# Altium footprint library Xds100v2Emu.PcbLib: 15 footprints
Each footprint in its own frame and in the unit in brackets; x right, y up, seen from the top. Pads: shape width x height; smd on the part's side, far side on the other; paste and mask are expansions set on the pad; w line width, h text height; cw(c..) or ccw(c..) is an arc to the next point about the centre after c.
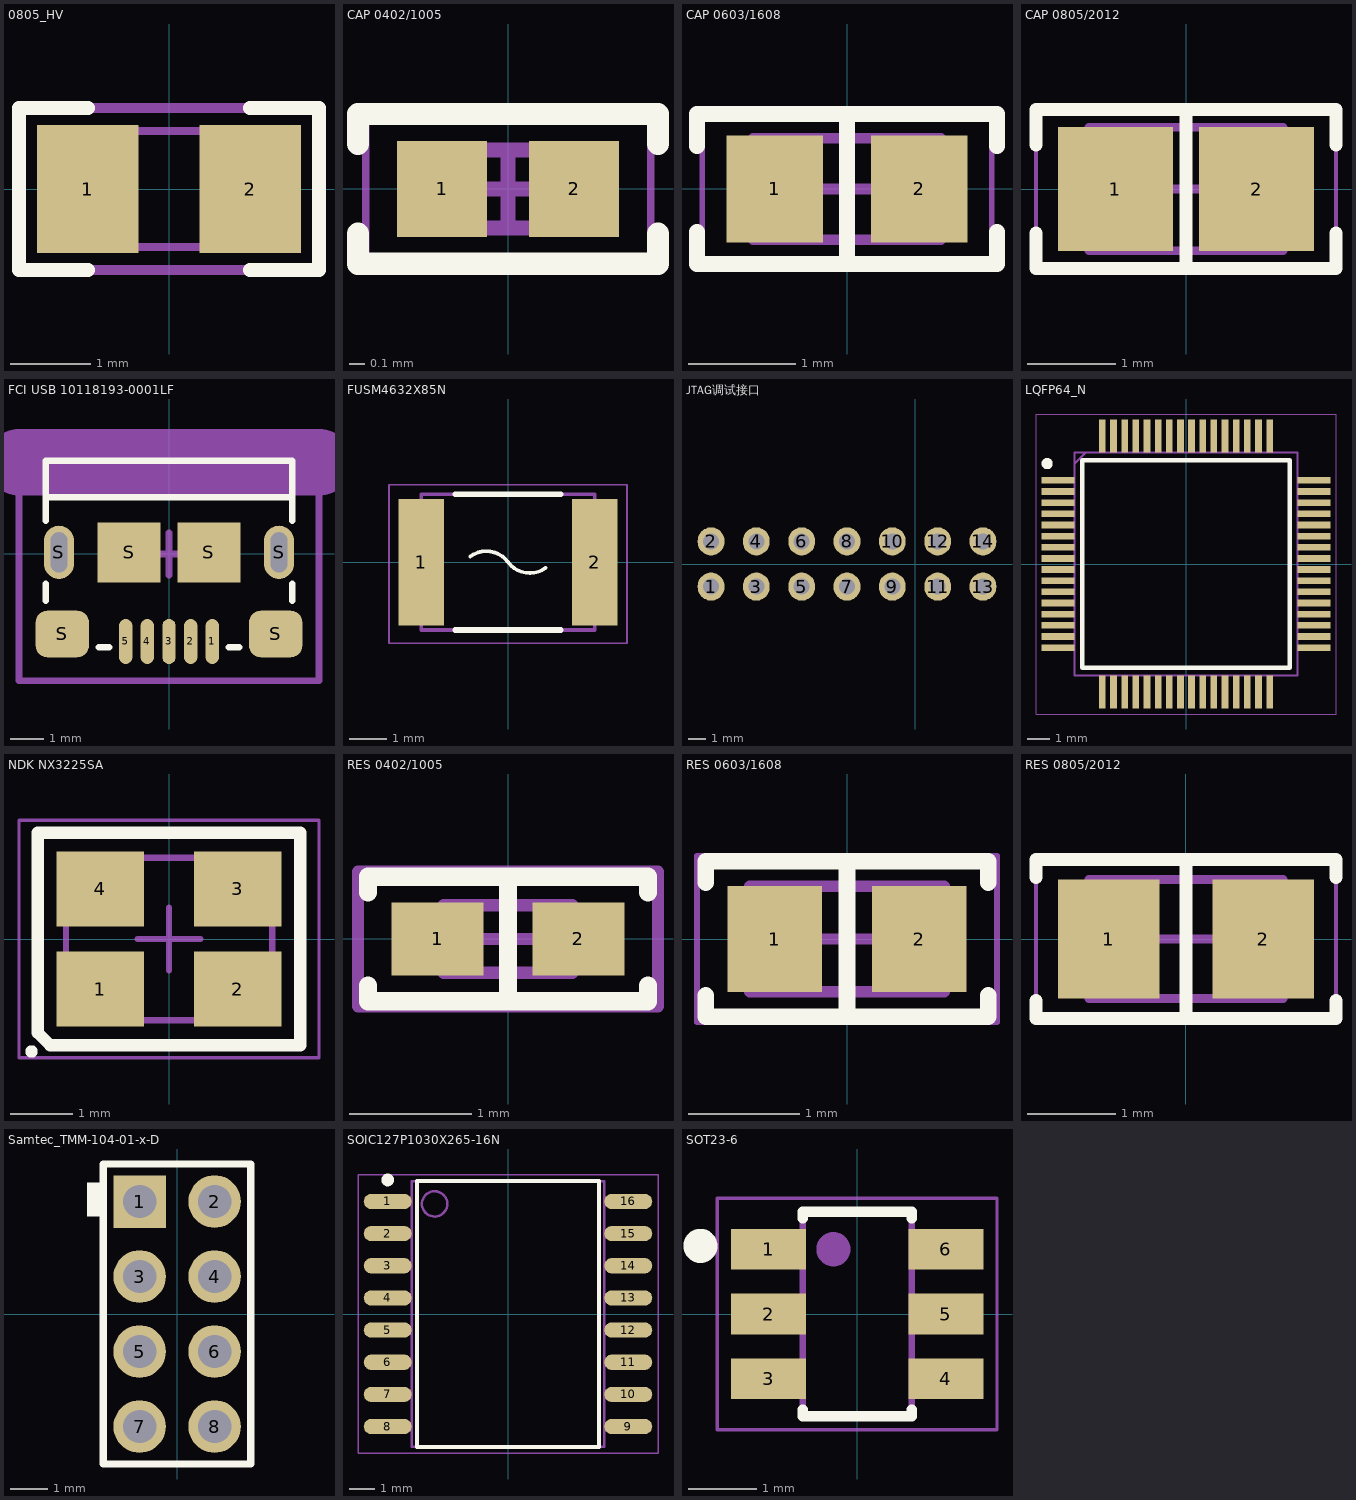
[diagram p0: the footprints below, top view; thin cyan lines are the x and y axes]

## 0805_HV [mil]
height 17.72
pads (2):
  rect 50x63 smd: 1(-40,0) 2(40,0)
Top Overlay:
  lines w7: -40,-40 -74,-40 -74,0 -74,40 -40,40 ; 40,-40 74,-40 74,0 74,40 40,40
Mechanical 5:
  lines w5: -74,-40 74,-40 74,40 -74,40 -74,-40
  text ".Designator" at -64,-17 h35
Mechanical 13:
  lines w3.94: -25.59,-28.54 -25.59,28.54 ; 25.59,-28.54 25.59,28.54 ; -43.31,-28.54 43.31,-28.54 43.31,28.54 -43.31,28.54 -43.31,-28.54
3D body: height 57.09, standoff 0, extent -43.29,-28.52 -25.61,28.52
3D body: height 57.09, standoff 0, extent -25.57,-28.52 25.57,28.52
3D body: height 57.09, standoff 0, extent 25.61,-28.52 43.29,28.52

## CAP 0402/1005 [mm] "Chip Capacitor, 2-Leads, Body 1.02x0.51mm, IPC Medium Density"
height 0.52
pads (2):
  rect 0.6x0.64 smd: 1(-0.44,0) 2(0.44,0)
Top Overlay:
  lines w0.15: -1,-0.3 -1,-0.5 1,-0.5 1,-0.3 ; -1,0.3 -1,0.5 1,0.5 1,0.3
Mechanical 13:
  lines w0.1: -0.515,-0.26 -0.515,0.26 0.515,0.26 0.515,-0.26 -0.515,-0.26
Mechanical 15:
  lines w0.05: -0.95,-0.5 -0.95,0.5 0.95,0.5 0.95,-0.5 -0.95,-0.5
  lines w0.1: -0.26,0 0.26,0 ; 0,-0.26 0,0.26
3D body "0402 cap.STEP": height 0.52, standoff 0, extent -0.5,-0.262 0.5,0.262

## CAP 0603/1608 [mm] "Chip Capacitor, 2-Leads, Body 1.60x0.80mm, IPC Medium Density"
height 0.89
pads (2):
  rect 0.9x1 smd: 1(-0.675,0) 2(0.675,0)
Top Overlay:
  lines w0.15: -1.4,-0.4 -1.4,-0.7 1.4,-0.7 1.4,-0.4 ; -1.4,0.4 -1.4,0.7 1.4,0.7 1.4,0.4 ; 0,-0.7 0,0.7
Mechanical 13:
  lines w0.1: -0.875,-0.475 -0.875,0.475 0.875,0.475 0.875,-0.475 -0.875,-0.475
Mechanical 15:
  lines w0.05: -1.35,-0.75 -1.35,0.75 1.35,0.75 1.35,-0.75 -1.35,-0.75
  lines w0.1: -0.475,0 0.475,0 ; 0,-0.475 0,0.475
3D body "0603 cap.STEP": height 0.82, standoff 0, extent -0.8,-0.412 0.8,0.412

## CAP 0805/2012 [mm] "Chip Capacitor, 2-Leads, Body 2.00x1.20mm, IPC Medium Density"
height 1.15
pads (2):
  rect 1.3x1.4 smd: 1(-0.8,0) 2(0.8,0)
Top Overlay:
  lines w0.15: -1.7,-0.5 -1.7,-0.9 1.7,-0.9 1.7,-0.5 ; -1.7,0.5 -1.7,0.9 1.7,0.9 1.7,0.5 ; 0,-0.9 0,0.9
Mechanical 13:
  lines w0.1: -1.1,-0.7 -1.1,0.7 1.1,0.7 1.1,-0.7 -1.1,-0.7
Mechanical 15:
  lines w0.05: -1.7,-0.95 -1.7,0.95 1.7,0.95 1.7,-0.95 -1.7,-0.95
  lines w0.1: -0.5,0 0.5,0 ; 0,-0.5 0,0.5
3D body "0805 cap.STEP": height 1.26, standoff -0.02, extent -1,-0.637 1,0.637

## FCI USB 10118193-0001LF [mm] "USB 2.0 Type B Micro"
height 3.1
pads (11):
  oval 0.4x1.35 smd: 1(1.3,-2.625) 2(0.65,-2.625) 3(0,-2.625) 4(-0.65,-2.625) 5(-1.3,-2.625)
  oval 0.9x1.6 hole 0.5 slot 1.2 at 90 deg: S(-3.3,0.05) S(3.3,0.05)
  rrect50% 1.6x1.4 smd: S(-3.2,-2.4) S(3.2,-2.4)
  rect 1.9x1.8 smd: S(-1.2,0.05) S(1.2,0.05)
Top Overlay:
  lines w0.2: -3.7,-1.4 -3.7,-0.9 ; -3.7,1 -3.7,1.7 ; -2.1,-2.8 -1.8,-2.8 ; 1.8,-2.8 2.1,-2.8 ; 3.7,-1.4 3.7,-0.9 ; 3.7,1 3.7,1.7 ; -3.7,1.7 -3.7,2.8 3.7,2.8 3.7,1.7 ; -3.7,1.7 3.7,1.7
Mechanical 15:
  lines w0.2: -0.635,0 0.635,0 ; 0,-0.635 0,0.635 ; -4.5,-3.8 4.5,-3.8 4.5,3.2 -4.5,3.2 -4.5,-3.8
Mechanical 31:
  lines w2: -4.5,2.754 0,2.754 4.5,2.754
3D body "FCI USB 10118193-0001lfc.STEP": height 2.78, standoff -0.82, extent -3.929,-2.9 3.928,2.76

## FUSM4632X85N [mm]
pads (2):
  rect 1.2x3.35 smd paste+0 mask+0.1: 1(-2.3,0) 2(2.3,0)
Top Overlay:
  lines w0.1: -1,0.15 cw(c-0.575,-0.425) 0,0 ccw(c0.575,0.425) 1,-0.15
  lines w0.15: -1.4,-1.8 1.4,-1.8 ; -1.4,1.8 1.4,1.8
Mechanical 14:
  lines w0.1: -2.3,-1.8 -2.3,1.8 2.3,1.8 2.3,-1.8 -2.3,-1.8
Mechanical 16:
  lines w0.05: -3.15,-2.15 -3.15,2.05 3.15,2.05 3.15,-2.15 -3.15,-2.15

## JTAG调试接口 [mm]
pads (14):
  oval 1.5x1.575 hole 0.9: 1(-11.455,-1.27) 2(-11.455,1.27) 3(-8.915,-1.27) 4(-8.915,1.27) 5(-6.375,-1.27) 6(-6.375,1.27) 7(-3.835,-1.27) 8(-3.835,1.27) 9(-1.295,-1.27) 10(-1.295,1.27) 11(1.245,-1.27) 12(1.245,1.27) 13(3.785,-1.27) 14(3.785,1.27)

## LQFP64_N [mm]
pads (64):
  rect 1.475x0.3 smd: 1(-5.738,3.75) 2(-5.738,3.25) 3(-5.738,2.75) 4(-5.738,2.25) 5(-5.738,1.75) 6(-5.738,1.25) 7(-5.738,0.75) 8(-5.738,0.25) 9(-5.738,-0.25) 10(-5.738,-0.75) 11(-5.738,-1.25) 12(-5.738,-1.75) 13(-5.738,-2.25) 14(-5.738,-2.75) 15(-5.738,-3.25) 16(-5.738,-3.75) 33(5.738,-3.75) 34(5.738,-3.25) 35(5.738,-2.75) 36(5.738,-2.25) 37(5.738,-1.75) 38(5.738,-1.25) 39(5.738,-0.75) 40(5.738,-0.25) 41(5.738,0.25) 42(5.738,0.75) 43(5.738,1.25) 44(5.738,1.75) 45(5.738,2.25) 46(5.738,2.75) 47(5.738,3.25) 48(5.738,3.75)
  rect 0.3x1.475 smd: 17(-3.75,-5.738) 18(-3.25,-5.738) 19(-2.75,-5.738) 20(-2.25,-5.738) 21(-1.75,-5.738) 22(-1.25,-5.738) 23(-0.75,-5.738) 24(-0.25,-5.738) 25(0.25,-5.738) 26(0.75,-5.738) 27(1.25,-5.738) 28(1.75,-5.738) 29(2.25,-5.738) 30(2.75,-5.738) 31(3.25,-5.738) 32(3.75,-5.738) 49(3.75,5.738) 50(3.25,5.738) 51(2.75,5.738) 52(2.25,5.738) 53(1.75,5.738) 54(1.25,5.738) 55(0.75,5.738) 56(0.25,5.738) 57(-0.25,5.738) 58(-0.75,5.738) 59(-1.25,5.738) 60(-1.75,5.738) 61(-2.25,5.738) 62(-2.75,5.738) 63(-3.25,5.738) 64(-3.75,5.738)
Top Overlay:
  circle w0.25: c-6.225,4.5 r0.125
  lines w0.2: -4.65,-4.65 -4.65,4.65 4.65,4.65 4.65,-4.65 -4.65,-4.65
Mechanical 13:
  lines w0.1: -5,4.5 -4.5,5 ; -5,-5 -5,5 5,5 5,-5 -5,-5
Mechanical 15:
  lines w0.05: -6.725,-6.725 -6.725,6.725 6.725,6.725 6.725,-6.725 -6.725,-6.725
3D body "FT2232HL-REEL.stp": height 1.6, standoff 0, extent -6,-6 6,6

## NDK NX3225SA [mm] "Crystal, 4-Leads, Body 2.50x3.20mm, Pitch 2.20mm, IPC Medium Density"
height 0.6
pads (4):
  rect 1.4x1.2 smd: 1(-1.1,-0.8) 2(1.1,-0.8) 3(1.1,0.8) 4(-1.1,0.8)
Top Overlay:
  circle w0.1: c-2.2,-1.8 r0.05
  lines w0.2: -2.1,-1.5 -1.9,-1.7 -1.1,-1.7 2.1,-1.7 2.1,1.7 -2.1,1.7 -2.1,-1.5
Mechanical 13:
  lines w0.1: -1.65,-1.3 1.65,-1.3 1.65,1.3 -1.65,1.3 -1.65,-1.3
Mechanical 15:
  lines w0.05: -2.4,-1.9 2.4,-1.9 2.4,1.9 -2.4,1.9 -2.4,-1.9
  lines w0.1: -0.5,0 0.5,0 ; 0,-0.5 0,0.5
3D body "NDK NX3225SA.STEP": height 0.6, standoff 0, extent -1.61,-1.26 1.61,1.26

## RES 0402/1005 [mm] "Chip Resistor, 2-Leads, Body 1.0x0.5mm, IPC Medium Density"
height 0.4
pads (2):
  rect 0.75x0.6 smd: 1(-0.575,0) 2(0.575,0)
Top Overlay:
  lines w0.15: -1.143,-0.381 -1.143,-0.508 1.143,-0.508 1.143,-0.381 ; -1.143,0.381 -1.143,0.508 1.143,0.508 1.143,0.381 ; 0,-0.508 0,0.508
Mechanical 13:
  lines w0.1: -0.525,-0.275 0.525,-0.275 0.525,0.275 -0.525,0.275 -0.525,-0.275
Mechanical 15:
  lines w0.1: -0.275,0 0.275,0 ; 0,-0.275 0,0.275 ; -1.225,-0.55 1.225,-0.55 1.225,0.55 -1.225,0.55 -1.225,-0.55
3D body "0402 resistor.STEP": height 0.35, standoff 0, extent -0.5,-0.25 0.5,0.25

## RES 0603/1608 [mm] "Chip Resistor, 2-Leads, Body 1.60x0.80mm, IPC Medium Density"
height 0.45
pads (2):
  rect 0.85x0.95 smd: 1(-0.65,0) 2(0.65,0)
Top Overlay:
  lines w0.15: -1.27,-0.508 -1.27,-0.7 1.27,-0.7 1.27,-0.508 ; -1.27,0.508 -1.27,0.7 1.27,0.7 1.27,0.508 ; 0,-0.7 0,0.7
Mechanical 13:
  lines w0.1: -0.875,-0.475 0.875,-0.475 0.875,0.475 -0.875,0.475 -0.875,-0.475
Mechanical 15:
  lines w0.05: -1.35,-0.75 1.35,-0.75 1.35,0.75 -1.35,0.75 -1.35,-0.75
  lines w0.1: -0.475,0 0.475,0 ; 0,-0.475 0,0.475
3D body "0603 resistor.STEP": height 0.45, standoff 0, extent -0.8,-0.4 0.8,0.4

## RES 0805/2012 [mm] "Chip Resistor, 2-Leads, Body 2.00x1.25mm, IPC Medium Density"
height 0.7
pads (2):
  rect 1.15x1.35 smd: 1(-0.875,0) 2(0.875,0)
Top Overlay:
  lines w0.15: -1.7,-0.7 -1.7,-0.9 1.7,-0.9 1.7,-0.7 ; -1.7,0.7 -1.7,0.9 1.7,0.9 1.7,0.7 ; 0,-0.9 0,0.9
Mechanical 13:
  lines w0.1: -1.1,-0.675 1.1,-0.675 1.1,0.675 -1.1,0.675 -1.1,-0.675
Mechanical 15:
  lines w0.05: -1.7,-0.95 1.7,-0.95 1.7,0.95 -1.7,0.95 -1.7,-0.95
  lines w0.1: -0.5,0 0.5,0 ; 0,-0.5 0,0.5
3D body "0805 resistor.STEP": height 0.6, standoff 0, extent -0.95,-0.625 1.05,0.625

## Samtec_TMM-104-01-x-D [mm]
height 0.45
pads (8):
  rect 1.4x1.4 hole 0.89: 1(-1,3)
  round 1.4 hole 0.89: 2(1,3) 3(-1,1) 4(1,1) 5(-1,-1) 6(1,-1) 7(-1,-3) 8(1,-3)
Top Overlay:
  rectangle: -2.4,2.6 -2,3.5
  lines w0.2: -1.968,-4 1.968,-4 1.969,4 -1.968,4 -1.968,-4
Mechanical 5:
  lines w0.1: -1.254,-3.254 -0.746,-3.254 ; -1.254,-3.254 -1.127,-3.127 ; -1.254,-3.254 -1.254,-2.746 ; -1.254,-2.746 -0.746,-2.746 ; -1.254,-2.746 -1.127,-2.873 ; -1.254,-1.254 -1.127,-1.127 ; -1.254,-1.254 -0.746,-1.254 ; -1.254,-1.254 -1.254,-0.746 ; -1.254,-0.746 -0.746,-0.746 ; -1.254,-0.746 -1.127,-0.873 ; -1.254,0.746 -1.254,1.254 ; -1.254,0.746 -1.127,0.873 ; -1.254,0.746 -0.746,0.746 ; -1.254,1.254 -0.746,1.254 ; -1.254,1.254 -1.127,1.127 ; -1.254,2.746 -1.127,2.873 ; -1.254,2.746 -0.746,2.746 ; -1.254,2.746 -1.254,3.254 ; -1.254,3.254 -1.127,3.127 ; -1.254,3.254 -0.746,3.254 ; -1.127,-3.127 -0.873,-3.127 ; -1.127,-3.127 -1.127,-2.873 ; -1.127,-2.873 -0.873,-2.873 ; -1.127,-1.127 -1.127,-0.873 ; -1.127,-1.127 -0.873,-1.127 ; -1.127,-0.873 -0.873,-0.873 ; -1.127,0.873 -0.873,0.873 ; -1.127,0.873 -1.127,1.127 ; -1.127,1.127 -0.873,1.127 ; -1.127,2.873 -1.127,3.127 ; -1.127,2.873 -0.873,2.873 ; -1.127,3.127 -0.873,3.127 ; -0.873,-3.127 -0.873,-2.873 ; -0.873,-3.127 -0.746,-3.254 ; -0.873,-2.873 -0.746,-2.746 ; -0.873,-1.127 -0.873,-0.873 ; -0.873,-1.127 -0.746,-1.254 ; -0.873,-0.873 -0.746,-0.746 ; -0.873,0.873 -0.873,1.127 ; -0.873,0.873 -0.746,0.746 ; -0.873,1.127 -0.746,1.254 ; -0.873,2.873 -0.746,2.746 ; -0.873,2.873 -0.873,3.127 ; -0.873,3.127 -0.746,3.254 ; -0.746,-3.254 -0.746,-2.746 ; -0.746,-1.254 -0.746,-0.746 ; -0.746,0.746 -0.746,1.254 ; -0.746,2.746 -0.746,3.254 ; 0.746,-3.254 1.254,-3.254 ; 0.746,-3.254 0.746,-2.746 ; 0.746,-3.254 0.873,-3.127 ; 0.746,-2.746 0.873,-2.873 ; 0.746,-2.746 1.254,-2.746 ; 0.746,-1.254 0.746,-0.746 ; 0.746,-1.254 0.873,-1.127 ; 0.746,-1.254 1.254,-1.254 ; 0.746,-0.746 0.873,-0.873 ; 0.746,-0.746 1.254,-0.746 ; 0.746,0.746 0.873,0.873 ; 0.746,0.746 0.746,1.254 ; 0.746,0.746 1.254,0.746 ; 0.746,1.254 0.873,1.127 ; 0.746,1.254 1.254,1.254 ; 0.746,2.746 0.873,2.873 ; 0.746,2.746 0.746,3.254 ; 0.746,2.746 1.254,2.746 ; 0.746,3.254 0.873,3.127 ; 0.746,3.254 1.254,3.254 ; 0.873,-3.127 1.127,-3.127 ; 0.873,-3.127 0.873,-2.873 ; 0.873,-2.873 1.127,-2.873 ; 0.873,-1.127 1.127,-1.127 ; 0.873,-1.127 0.873,-0.873 ; 0.873,-0.873 1.127,-0.873 ; 0.873,0.873 0.873,1.127 ; 0.873,0.873 1.127,0.873 ; 0.873,1.127 1.127,1.127 ; 0.873,2.873 0.873,3.127 ; 0.873,2.873 1.127,2.873 ; 0.873,3.127 1.127,3.127 ; 1.127,-3.127 1.127,-2.873 ; 1.127,-3.127 1.254,-3.254 ; 1.127,-2.873 1.254,-2.746 ; 1.127,-1.127 1.127,-0.873 ; 1.127,-1.127 1.254,-1.254 ; 1.127,-0.873 1.254,-0.746 ; 1.127,0.873 1.127,1.127 ; 1.127,0.873 1.254,0.746 ; 1.127,1.127 1.254,1.254 ; 1.127,2.873 1.254,2.746 ; 1.127,2.873 1.127,3.127 ; 1.127,3.127 1.254,3.254 ; 1.254,-3.254 1.254,-2.746 ; 1.254,-1.254 1.254,-0.746 ; 1.254,0.746 1.254,1.254 ; 1.254,2.746 1.254,3.254 ; -1.968,-4 -1.968,4 1.969,4 1.968,-4 -1.968,-4
  text ".Designator" at -1.8,-0.5 h1.5
3D body "TMM-104-01-T-D.stp": height 4.7, standoff -3.5, extent -1.969,-4 1.968,4

## SOIC127P1030X265-16N [mm] "SOIC, 16-Leads, Body 10.30x7.50mm, Pitch 1.27mm, IPC Medium Density"
height 2.65
pads (16):
  oval 1.9x0.6 smd mask+0.1: 1(-4.75,4.445) 2(-4.75,3.175) 3(-4.75,1.905) 4(-4.75,0.635) 5(-4.75,-0.635) 6(-4.75,-1.905) 7(-4.75,-3.175) 8(-4.75,-4.445) 9(4.75,-4.445) 10(4.75,-3.175) 11(4.75,-1.905) 12(4.75,-0.635) 13(4.75,0.635) 14(4.75,1.905) 15(4.75,3.175) 16(4.75,4.445)
Top Overlay:
  circle w0.25: c-4.75,5.295 r0.125
  lines w0.15: -3.6,-5.25 3.6,-5.25 3.6,5.25 -3.6,5.25 -3.6,-5.25
Mechanical 14:
  circle w0.1: c-2.9,4.35 r0.5
  lines w0.1: -3.8,-5.25 -3.8,5.25 3.8,5.25 3.8,-5.25 -3.8,-5.25
Mechanical 16:
  lines w0.05: -5.925,-5.5 -5.925,5.5 5.925,5.5 5.925,-5.5 -5.925,-5.5

## SOT23-6 [mm]
pads (6):
  rect 1.1x0.6 smd mask+0.1: 1(-1.3,0.95) 2(-1.3,0) 3(-1.3,-0.95) 4(1.3,-0.95) 5(1.3,0) 6(1.3,0.95)
Top Overlay:
  lines w0.15: -0.8,-1.4 -0.8,-1.5 0.8,-1.5 0.8,-1.4 ; -0.8,1.4 -0.8,1.5 0.8,1.5 0.8,1.4
  lines w0.4: -2.258,1.028 ccw(c-2.3,1) -2.25,1
Mechanical 14:
  circle w0.4: c-0.35,0.95 r0.05
  lines w0.1: -0.8,-1.475 -0.8,1.475 0.8,1.475 0.8,-1.475 -0.8,-1.475
Mechanical 16:
  lines w0.05: -2.05,-1.7 -2.05,1.7 2.05,1.7 2.05,-1.7 -2.05,-1.7